# EAGLE library part USB-C-RECEPTACLE (library hel-diverses)
USB Type C-Buchse Mouser-Artikelnummer: 649-10164359-00011LF
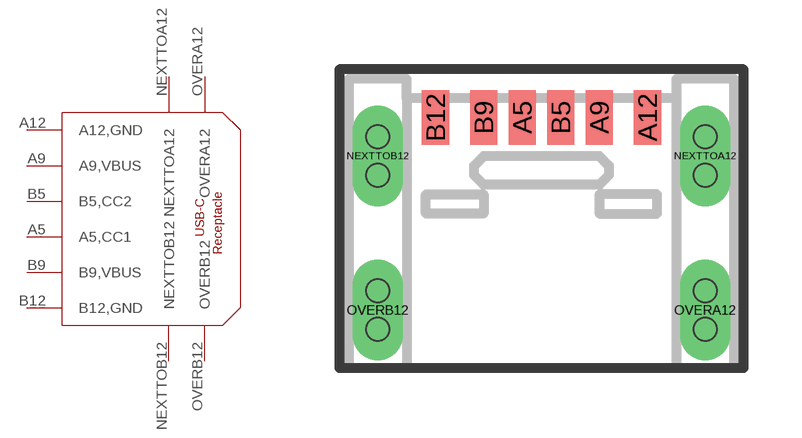
[diagram p0: symbol with the pads of 6-PIN-USB-C-RECEPTACLE; footprint 6-PIN-USB-C-RECEPTACLE]

Designator prefix -

## USB-C-RECEPTACLE  [6-PIN-USB-C-RECEPTACLE]
A5  A5,CC1
A9  A9,VBUS  pwr
A12  A12,GND  pwr
B5  B5,CC2
B9  B9,VBUS  pwr
B12  B12,GND  pwr
NEXTTOA12  NEXTTOA12  pwr
NEXTTOB12  NEXTTOB12  pwr
OVERA12  OVERA12  pwr
OVERB12  OVERB12  pwr

## Footprint 6-PIN-USB-C-RECEPTACLE (pad centres in mm)
USB Type C Receptacle 6-Pin Amphenol FCi Product Family: HPL 511
smd 0.711 x 1.422: A5 -0.5,3; A9 1.5,3; A12 2.75,3; B5 0.5,3; B9 -1.5,3; B12 -2.75,3
drill 0.8 long: NEXTTOA12 4.25,2; NEXTTOB12 -4.25,2; OVERA12 4.25,-2; OVERB12 -4.25,-2
hole 0.6 at -4.25,2.5
hole 0.6 at -4.25,1.5
hole 0.6 at 4.25,2.5
hole 0.6 at 4.25,1.5
hole 0.6 at 4.25,-1.5
hole 0.6 at 4.25,-2.5
hole 0.6 at -4.25,-1.5
hole 0.6 at -4.25,-2.5